# Altium footprint library разъемы отечественные.PcbLib: 6 footprints
Each footprint in its own frame and in the unit in brackets; x right, y up, seen from the top. Pads: shape width x height; smd on the part's side, far side on the other; paste and mask are expansions set on the pad; w line width, h text height; cw(c..) or ccw(c..) is an arc to the next point about the centre after c.
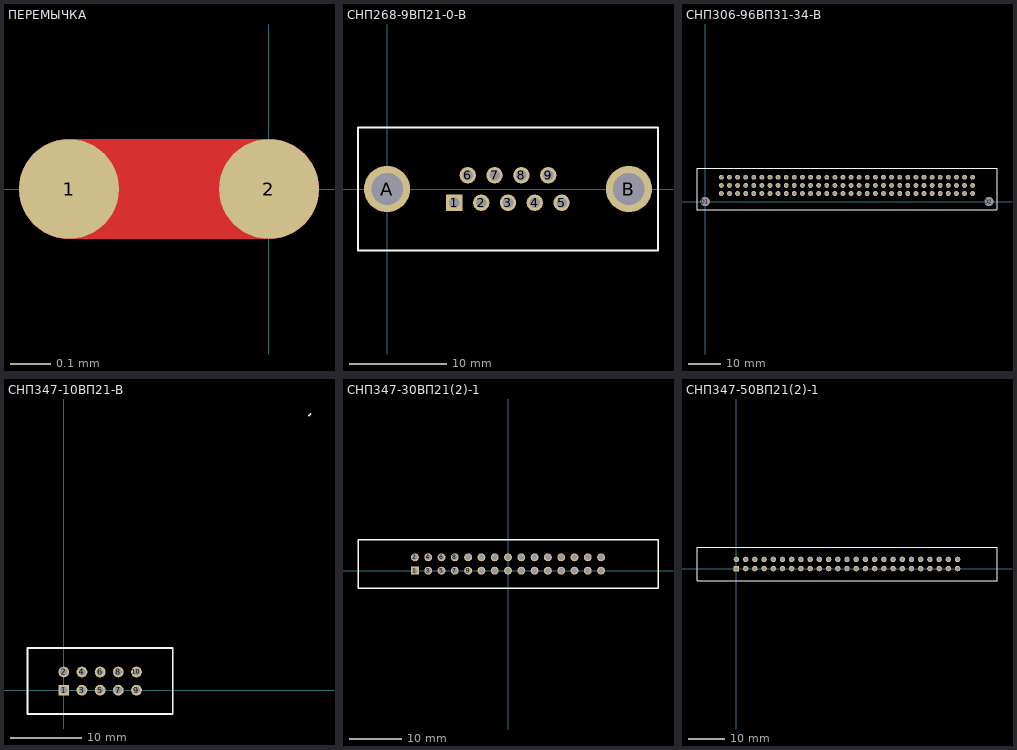
[diagram p0: the footprints below, top view; thin cyan lines are the x and y axes]

## ПЕРЕМЫЧКА [mm]
pads (2):
  round 0.25 smd: 1(-0.5,0) 2(0,0)
Top Layer:
  lines w0.25: -0.5,0 0,0

## СНП268-9ВП21-0-В [mm]
pads (11):
  rect 1.69x1.69 hole 1.09: 1(6.96,-1.42)
  round 1.69 hole 1.09: 2(9.73,-1.42) 3(12.5,-1.42) 4(15.27,-1.42) 5(18.04,-1.42) 6(8.345,1.42) 7(11.115,1.42) 8(13.885,1.42) 9(16.655,1.42)
  round 4.76 hole 3.26: A(0,0) B(25,0)
Top Overlay:
  lines w0.2: -3,-6.35 -3,6.35 ; -2.9,-6.35 27.9,-6.35 ; -2.9,6.35 27.9,6.35 ; 28,-6.35 28,6.35
3D body "СНП268-9Р.STEP": height 12.8, standoff -4.4, extent -2.905,-6.3 27.905,6.25

## СНП306-96ВП31-34-В [mil]
pads (98):
  round 60 hole 39.37: A1(3300,100) A2(3200,100) A3(3100,100) A4(3000,100) A5(2900,100) A6(2800,100) A7(2700,100) A8(2600,100) A9(2500,100) A10(2400,100) A11(2300,100) A12(2200,100) A13(2100,100) A14(2000,100) A15(1900,100) A16(1800,100) A17(1700,100) A18(1600,100) A19(1500,100) A20(1400,100) A21(1300,100) A22(1200,100) A23(1100,100) A24(1000,100) A25(900,100) A26(800,100) A27(700,100) A28(600,100) A29(500,100) A30(400,100) A31(300,100) A32(200,100) B1(3300,200) B2(3200,200) B3(3100,200) B4(3000,200) B5(2900,200) B6(2800,200) B7(2700,200) B8(2600,200) B9(2500,200) B10(2400,200) B11(2300,200) B12(2200,200) B13(2100,200) B14(2000,200) B15(1900,200) B16(1800,200) B17(1700,200) B18(1600,200) B19(1500,200) B20(1400,200) B21(1300,200) B22(1200,200) B23(1100,200) B24(1000,200) B25(900,200) B26(800,200) B27(700,200) B28(600,200) B29(500,200) B30(400,200) B31(300,200) B32(200,200) C1(3300,300) C2(3200,300) C3(3100,300) C4(3000,300) C5(2900,300) C6(2800,300) C7(2700,300) C8(2600,300) C9(2500,300) C10(2400,300) C11(2300,300) C12(2200,300) C13(2100,300) C14(2000,300) C15(1900,300) C16(1800,300) C17(1700,300) C18(1600,300) C19(1500,300) C20(1400,300) C21(1300,300) C22(1200,300) C23(1100,300) C24(1000,300) C25(900,300) C26(800,300) C27(700,300) C28(600,300) C29(500,300) C30(400,300) C31(300,300) C32(200,300)
  round 110.24 hole 110.24: D1(0,0) D2(3500,0)
Top Overlay:
  lines w7.87: -100.39,-100.39 3600.39,-100.39 ; -100.39,-97.44 -100.39,411.42 3600.39,411.42 3600.39,-97.44
3D body "СНП306-96ВП31-34-В.STEP": height 368.61, standoff -106.78, extent -102.36,-399.29 3598.43,310.24

## СНП347-10ВП21-В [mm]
pads (10):
  rect 1.5x1.5 hole 1: 1(0,0)
  round 1.5 hole 1: 2(0,2.54) 3(2.54,0) 4(2.54,2.54) 5(5.08,0) 6(5.08,2.54) 7(7.62,0) 8(7.62,2.54) 9(10.16,0) 10(10.16,2.54)
Top Overlay:
  lines w0.254: 34.3,38.4 34.5,38.6 ; -5.08,-3.33 14.45,-3.33 15.245,-3.335 15.24,-2.54 15.24,5.87 14.45,5.87 -5.08,5.87 -5.08,-3.33
3D body "IDC10-MS.STEP": height 9.55, standoff -3.15, extent -5.12,-3.33 15.28,6.02

## СНП347-30ВП21(2)-1 [mm]
pads (30):
  rect 1.5x1.5 hole 1: 1(-17.78,0)
  round 1.5 hole 1: 2(-17.78,2.54) 3(-15.24,0) 4(-15.24,2.54) 5(-12.7,0) 6(-12.7,2.54) 7(-10.16,0) 8(-10.16,2.54) 9(-7.62,0) 10(-7.62,2.54) 11(-5.08,0) 12(-5.08,2.54) 13(-2.54,0) 14(-2.54,2.54) 15(0,0) 16(0,2.54) 17(2.54,0) 18(2.54,2.54) 19(5.08,0) 20(5.08,2.54) 21(7.62,0) 22(7.62,2.54) 23(10.16,0) 24(10.16,2.54) 25(12.7,0) 26(12.7,2.54) 27(15.24,0) 28(15.24,2.54) 29(17.78,0) 30(17.78,2.54)
Top Overlay:
  lines w0.254: -28.65,-3.33 12.7,-3.33 28.65,-3.33 28.65,1.27 28.65,5.87 12.7,5.87 -28.65,5.87 -28.65,-3.33
3D body "СНП347-30ВП21(2)-1.STEP": height 2.45, standoff -28.47, extent -28.65,-2.8 28.65,5.4

## СНП347-50ВП21(2)-1 [mm]
pads (50):
  rect 1.5x1.5 hole 1: 1(0,0)
  round 1.5 hole 1: 2(0,2.54) 3(2.54,0) 4(2.54,2.54) 5(5.08,0) 6(5.08,2.54) 7(7.62,0) 8(7.62,2.54) 9(10.16,0) 10(10.16,2.54) 11(12.7,0) 12(12.7,2.54) 13(15.24,0) 14(15.24,2.54) 15(17.78,0) 16(17.78,2.54) 17(20.32,0) 18(20.32,2.54) 19(22.86,0) 20(22.86,2.54) 21(25.4,0) 22(25.4,2.54) 23(27.94,0) 24(27.94,2.54) 25(30.48,0) 26(30.48,2.54) 27(33.02,0) 28(33.02,2.54) 29(35.56,0) 30(35.56,2.54) 31(38.1,0) 32(38.1,2.54) 33(40.64,0) 34(40.64,2.54) 35(43.18,0) 36(43.18,2.54) 37(45.72,0) 38(45.72,2.54) 39(48.26,0) 40(48.26,2.54) 41(50.8,0) 42(50.8,2.54) 43(53.34,0) 44(53.34,2.54) 45(55.88,0) 46(55.88,2.54) 47(58.42,0) 48(58.42,2.54) 49(60.96,0) 50(60.96,2.54)
Top Overlay:
  lines w0.254: -10.87,-3.33 -10.87,5.87 30.48,5.87 71.83,5.87 71.83,1.27 71.83,-3.33 30.48,-3.33 -10.87,-3.33
3D body "PLD-2.STEP": height 8.44, standoff -3, extent 8.933,-1.267 11.473,3.813
3D body "PLD-2.STEP": height 8.44, standoff -3, extent 6.393,-1.267 8.933,3.813
3D body "PLD-2.STEP": height 8.44, standoff -3, extent 3.853,-1.267 6.393,3.813
3D body "PLD-2.STEP": height 8.44, standoff -3, extent 1.313,-1.267 3.853,3.813
3D body "PLD-2.STEP": height 8.44, standoff -3, extent -1.227,-1.267 1.313,3.813
3D body "PLD-2.STEP": height 8.44, standoff -3, extent 11.473,-1.267 14.013,3.813
3D body "PLD-2.STEP": height 8.44, standoff -3, extent 14.013,-1.267 16.553,3.813
3D body "PLD-2.STEP": height 8.44, standoff -3, extent 16.553,-1.267 19.093,3.813
3D body "PLD-2.STEP": height 8.44, standoff -3, extent 19.093,-1.267 21.633,3.813
3D body "PLD-2.STEP": height 8.44, standoff -3, extent 21.633,-1.267 24.173,3.813
3D body "PLD-2.STEP": height 8.44, standoff -3, extent 24.173,-1.267 26.713,3.813
3D body "PLD-2.STEP": height 8.44, standoff -3, extent 26.713,-1.267 29.253,3.813
3D body "PLD-2.STEP": height 8.44, standoff -3, extent 29.253,-1.267 31.793,3.813
3D body "PLD-2.STEP": height 8.44, standoff -3, extent 31.793,-1.267 34.333,3.813
3D body "PLD-2.STEP": height 8.44, standoff -3, extent 34.333,-1.267 36.873,3.813
3D body "PLD-2.STEP": height 8.44, standoff -3, extent 36.873,-1.267 39.413,3.813
3D body "PLD-2.STEP": height 8.44, standoff -3, extent 39.413,-1.267 41.953,3.813
3D body "PLD-2.STEP": height 8.44, standoff -3, extent 41.953,-1.267 44.493,3.813
3D body "PLD-2.STEP": height 8.44, standoff -3, extent 44.493,-1.267 47.033,3.813
3D body "PLD-2.STEP": height 8.44, standoff -3, extent 47.033,-1.267 49.573,3.813
3D body "PLD-2.STEP": height 8.44, standoff -3, extent 49.573,-1.267 52.113,3.813
3D body "PLD-2.STEP": height 8.44, standoff -3, extent 52.113,-1.267 54.653,3.813
3D body "PLD-2.STEP": height 8.44, standoff -3, extent 54.653,-1.267 57.193,3.813
3D body "PLD-2.STEP": height 8.44, standoff -3, extent 57.193,-1.267 59.733,3.813
3D body "PLD-2.STEP": height 8.44, standoff -3, extent 59.733,-1.267 62.273,3.813